# Altium footprint library 二极管-整流桥.PcbLib: 49 footprints (part 3 of 4)
Each footprint in its own frame and in the unit in brackets; x right, y up, seen from the top. Pads: shape width x height; smd on the part's side, far side on the other; paste and mask are expansions set on the pad; w line width, h text height; cw(c..) or ccw(c..) is an arc to the next point about the centre after c.
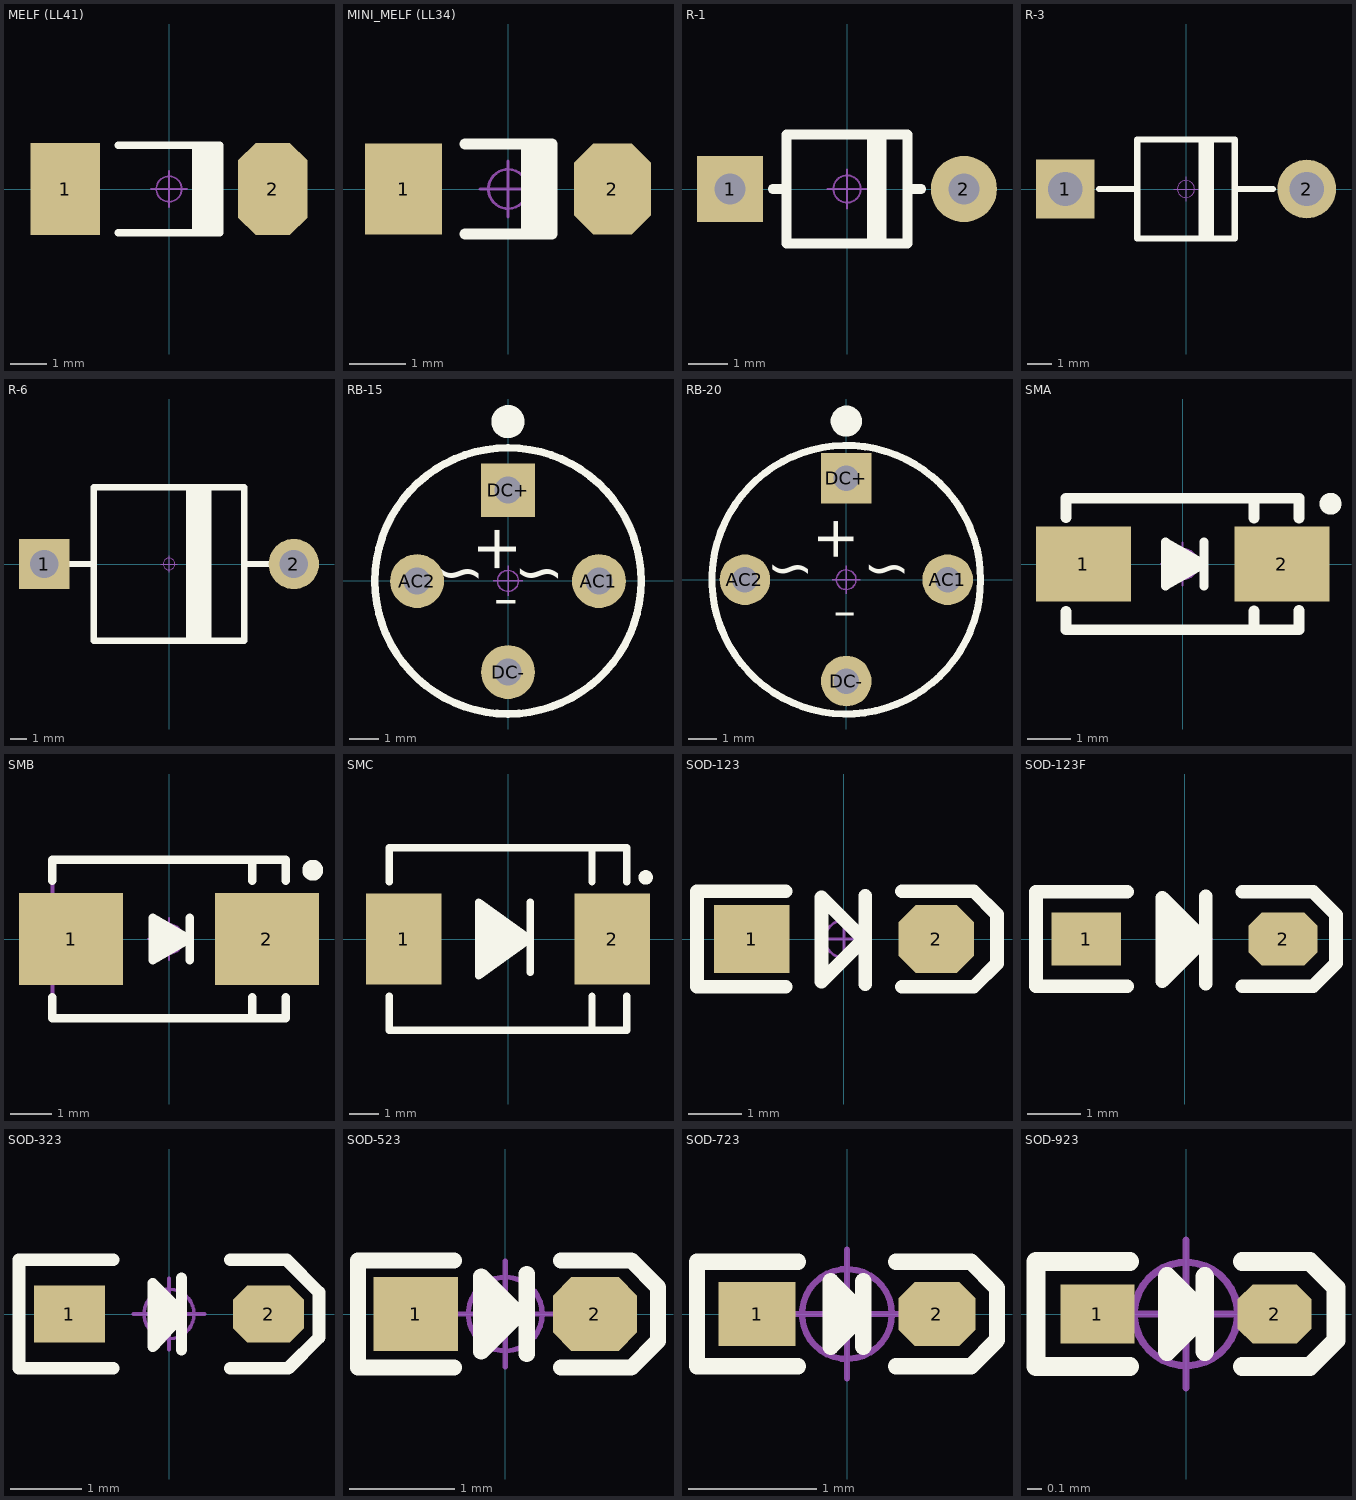
[diagram p2: the footprints below, top view; thin cyan lines are the x and y axes]

## MELF (LL41) [mm] "2.4*5.3mm(直径，脚距）"
height 2.54
pads (2):
  rect 1.9x2.54 smd: 1(-2.85,0)
  oct 1.9x2.54 smd: 2(2.85,0)
Top Overlay:
  rectangle: 0.635,-1.2 0.85,1.2
  rectangle: 0.85,-1.2 1.4,1.2
  lines w0.2: -1.4,-1.2 1.4,-1.2 1.4,1.2 -1.4,1.2
Mechanical 15:
  circle w0.05: c0,0 r0.35
  lines w0.05: -0.5,0 0.5,0 ; 0,-0.5 0,0.5
3D body "MELF.STEP": height 2.4, standoff 0, extent -2.651,-1.2 2.651,1.2

## MINI_MELF (LL34) [mm] "1.5*3.4mm(直径，脚距）"
pads (2):
  rect 1.37x1.62 smd: 1(-1.855,0)
  oct 1.37x1.62 smd: 2(1.855,0)
Top Overlay:
  rectangle: 0.227,-0.8 0.777,0.8
  lines w0.2: -0.762,-0.8 0.777,-0.8 0.777,0.8 -0.762,0.8
Mechanical 15:
  circle w0.05: c0,0 r0.35
  lines w0.05: -0.5,0 0.5,0 ; 0,-0.5 0,0.5
3D body "MINI-MELF.STEP": height 1.5, standoff 0, extent -1.701,-0.75 1.701,0.75

## R-1 [mm] "2.5*6mm(直径，脚距）"
pads (2):
  rect 1.7x1.7 hole 0.8: 1(-3,0)
  round 1.7 hole 0.8: 2(3,0)
Top Overlay:
  rectangle: 0.508,-1.397 1.016,1.397
  lines w0.254: -1.905,0 -1.55,0 ; 1.55,0 1.905,0 ; -1.55,-1.397 -1.55,1.397 1.55,1.397 1.55,-1.397 -1.55,-1.397
Mechanical 15:
  circle w0.05: c0,0 r0.35
  lines w0.05: -0.5,0 0.5,0 ; 0,-0.5 0,0.5
3D body "R-1.STEP": height 2.55, standoff -3.45, extent -3.3,-1.251 3.3,1.251

## R-3 [mm] "3.9*9.9mm(直径，脚距）"
pads (2):
  rect 2.4x2.4 hole 1.4: 1(-4.95,0)
  round 2.4 hole 1.4: 2(4.95,0)
Top Overlay:
  rectangle: 0.508,-2.032 1.143,2.032
  lines w0.254: -3.556,0 -2,0 ; 2.032,0 3.556,0 ; -2,-2.032 2,-2.032 2,2.032 -2,2.032 -2,-2.032
Mechanical 15:
  circle w0.05: c0,0 r0.35
  lines w0.05: -0.5,0 0.5,0 ; 0,-0.5 0,0.5
3D body "R-3.STEP": height 3.95, standoff -3.45, extent -5.5,-1.951 5.5,1.951

## R-6 [mm] "8.8*14.9mm(直径，脚距）"
pads (2):
  rect 3x3 hole 1.7: 1(-7.45,0)
  round 3 hole 1.7: 2(7.45,0)
Top Overlay:
  rectangle: 1.016,-4.572 2.54,4.572
  lines w0.381: -6.056,0 -4.5,0 ; 4.5,0 6.024,0 ; -4.5,-4.572 4.5,-4.572 4.5,4.572 -4.5,4.572 -4.5,-4.572
Mechanical 15:
  circle w0.05: c0,0 r0.35
  lines w0.05: -0.5,0 0.5,0 ; 0,-0.5 0,0.5
3D body "R-6.STEP": height 8.85, standoff -3.45, extent -8.1,-4.401 8.1,4.401

## RB-15 [mm] "8.9*3.5mm(直径，高)"
pads (4):
  round 1.8 hole 0.9: AC1(3.041,-0.007) AC2(-3.041,-0.007) DC-(0,-3.048)
  rect 1.8x1.8 hole 0.9: DC+(0,3.033)
Top Overlay:
  circle w0.6: c0,5.327 r0.254
  circle w0.254: c0,0 r4.45
  text "~" at 1.905,-0.889 h2.54
  text "~" at -0.762,-0.889 h2.54
  text "-" at 0.381,-1.905 h3.05
  text "+" at 0.762,1.905 h2.54
Mechanical 15:
  circle w0.05: c0,0 r0.35
  lines w0.05: -0.5,0 0.5,0 ; 0,-0.5 0,0.5
3D body "RB-15.STEP": height 3.55, standoff -3.45, extent -4.45,-4.45 4.45,4.45

## RB-20 [mm] "8.9*3.5mm(直径，高)"
pads (4):
  round 1.8 hole 0.9: AC1(3.606,0) AC2(-3.606,0) DC-(0,-3.606)
  rect 1.8x1.8 hole 0.9: DC+(0,3.606)
Top Overlay:
  circle w0.254: c0,0 r4.775
  circle w0.6: c0,5.639 r0.254
  text "+" at 0.762,2.286 h2.54
  text "-" at 0.381,-2.413 h3.05
  text "~" at -1.143,-0.762 h2.54
  text "~" at 2.286,-0.762 h2.54
Mechanical 15:
  circle w0.05: c0,0 r0.35
  lines w0.05: -0.5,0 0.5,0 ; 0,-0.5 0,0.5
3D body "RB-20.STEP": height 5.35, standoff -3.5, extent -4.625,-4.625 4.625,4.625

## SMA [mm] "4.5x2.6*2.2mm（长宽高，不包括引脚）"
height 2.54
pads (2):
  rect 2.2x1.75 smd: 1(-2.3,0) 2(2.3,0)
Top Overlay:
  circle w0.254: c3.429,1.397 r0.127
  lines w0.203: 0.494,-0.508 0.494,0.508 ; -0.395,-0.508 0.494,0 -0.395,0.508 -0.395,-0.508
  lines w0.254: -2.7,-1.105 -2.7,-1.524 2.7,-1.524 2.7,-1.08 ; -2.7,1.08 -2.7,1.524 2.7,1.524 2.7,1.067 ; -0.33,0.305 0.305,0 -0.254,-0.305 -0.254,0.051 0.023,0 ; 1.651,-1.524 1.651,-1.092 ; 1.651,1.067 1.651,1.524
Mechanical 15:
  circle w0.05: c0,0 r0.35
  lines w0.05: -0.5,0 0.5,0 ; 0,-0.5 0,0.5
3D body "SMA.STEP": height 2.15, standoff 0.04, extent -2.528,-1.3 2.575,1.3

## SMB [mm] "4.7*3.9*2.2mm(长宽高，不包括引脚）"
height 2.4
pads (2):
  rect 2.5x2.2 smd: 1(-2.35,0) 2(2.35,0)
Top Overlay:
  circle w0.25: c3.45,1.65 r0.125
  lines w0.2: -2.8,-1.4 -2.8,-1.9 2.8,-1.9 2.8,-1.4 ; -2.8,1.4 -2.8,1.9 2.8,1.9 2.8,1.4 ; 2,-1.9 2,-1.4 ; 2,1.4 2,1.9
  lines w0.203: 0.5,-0.508 0.5,0.508 ; -0.389,-0.508 -0.389,0.508 0.5,0 -0.389,-0.508
  lines w0.254: -0.254,0 0.279,0 ; 0.279,0 -0.229,0.279 -0.229,-0.305 0.279,0
Mechanical 13:
  lines w0.1: 2.8,-1.9 -2.8,-1.9 -2.8,1.9 2.8,1.9
Mechanical 15:
  circle w0.05: c0,0 r0.35
  lines w0.05: -0.5,0 0.5,0 ; 0,-0.5 0,0.5
3D body "SMB.STEP": height 2.35, standoff 0.04, extent -2.629,-1.8 2.675,1.8

## SMC [mm] "7.1x5.9*2.3mm（长宽高，不包括引脚）"
height 2.41
pads (2):
  rect 2.6x3.15 smd: 1(-3.6,0) 2(3.6,0)
Top Overlay:
  circle w0.25: c4.75,2.125 r0.125
  lines w0.254: -4.1,-1.975 -4.1,-3.15 4.1,-3.15 4.1,-1.975 ; -4.1,1.975 -4.1,3.15 4.1,3.15 4.1,1.975 ; -0.889,0.991 0.5,0 -0.889,-0.965 -0.914,0.762 0.229,0 -0.711,-0.66 -0.762,0.483 0,-0.051 -0.584,-0.33 -0.635,0.152 -0.229,-0.051 -0.737,-0.127 ; 0.762,-1.143 0.762,1.27 ; 2.9,-3.15 2.9,-1.975 ; 2.9,1.975 2.9,3.15 ; -1.016,-1.27 0.762,0 -1.016,1.27 -1.016,-1.27
Mechanical 13:
  lines w0.1: -4.065,-3.11 4.065,-3.11 ; -4.065,3.11 4.065,3.11
Mechanical 15:
  circle w0.05: c0,0 r0.35
  lines w0.05: -0.5,0 0.5,0 ; 0,-0.5 0,0.5
3D body "SMC.STEP": height 2.45, standoff 0.03, extent -3.953,-2.9 3.953,2.9

## SOD-123 [mil] "2.7x1.6X1.1mm（长宽高，不包括引脚）"
pads (2):
  rect 55x50 smd: 1(-67.5,0)
  oct 55x50 smd: 2(67.5,0)
Top Overlay:
  lines w10: -42.5,-35 -107.5,-35 -107.5,35 -42.5,35 ; 14,-0.8 -16.4,-31.2 -16.4,30.5 15.6,-1.5 ; 15.6,-33.1 15.6,31.7 ; 42.5,-35 95,-35 112,-18 112,18 95,35 42.5,35
Mechanical 15:
  circle w1.97: c0,0 r13.78
  lines w1.97: -19.68,0 19.68,0 ; 0,-19.68 0,19.68
3D body "SOD-123.STEP": height 48.03, standoff 0, extent -72.84,-31.5 72.83,31.5

## SOD-123F [mm] "2.7x1.6X1.1mm（长宽高，不包括引脚）"
pads (2):
  rect 1.3x1 smd: 1(-1.85,0)
  oct 1.3x1 smd: 2(1.85,0)
Top Overlay:
  lines w0.254: -1.079,-0.889 -2.794,-0.889 -2.794,0.889 -1.079,0.889 ; -0.254,0.559 -0.229,-0.432 0.254,0 0,0.254 0,0 0,-0.254 ; 0.356,-0.02 -0.417,-0.792 -0.417,0.775 0.396,-0.038 ; 0.396,-0.841 0.396,0.805 ; 1.079,-0.889 2.413,-0.889 2.845,-0.457 2.845,0.457 2.413,0.889 1.079,0.889
Mechanical 15:
  circle w0.05: c0,0 r0.35
  lines w0.05: -0.5,0 0.5,0 ; 0,-0.5 0,0.5
3D body "SOD-123F.STEP": height 1.15, standoff 0.04, extent -1.9,-0.8 1.9,0.8

## SOD-323 [mm] "1.8x1.3X0.9mm（长宽高，不包括引脚）"
pads (2):
  rect 1x0.8 smd: 1(-1.4,0)
  oct 1x0.8 smd: 2(1.4,0)
Top Overlay:
  lines w0.152: 0.178,-0.508 0.178,0.508 ; 0.178,-0.025 -0.229,-0.457 -0.229,0.432 0.178,0.025
  lines w0.178: -0.787,-0.762 -2.108,-0.762 -2.108,0.762 -0.787,0.762 ; 0.864,-0.762 1.676,-0.762 2.108,-0.33 2.108,0.305 1.651,0.762 0.864,0.762
  lines w0.254: -0.127,0.254 -0.152,-0.178 0.025,-0.025 -0.025,0.127
Mechanical 15:
  circle w0.05: c0,0 r0.35
  lines w0.05: -0.5,0 0.5,0 ; 0,-0.5 0,0.5
3D body "SOD-323.STEP": height 1, standoff 0.04, extent -1.337,-0.631 1.311,0.669

## SOD-523 [mm] "1.2x0.8X0.6mm（长宽高，不包括引脚）"
pads (2):
  rect 0.8x0.7 smd: 1(-0.85,0)
  oct 0.8x0.7 smd: 2(0.85,0)
Top Overlay:
  rectangle: -0.178,-0.178 0,0.178
  lines w0.152: -0.488,-0.508 -1.397,-0.508 -1.397,0.508 -0.488,0.508 ; -0.127,0 0.127,0 ; 0.203,-0.381 0.203,0.381 ; 0.528,-0.508 1.194,-0.508 1.448,-0.254 1.448,0.254 1.194,0.508 0.528,0.508 ; 0.127,0 -0.229,-0.356 -0.229,0.356 0.127,0
Mechanical 15:
  circle w0.05: c0,0 r0.35
  lines w0.05: -0.5,0 0.5,0 ; 0,-0.5 0,0.5
3D body "SOD-523.STEP": height 0.65, standoff 0.05, extent -0.8,-0.4 0.8,0.4

## SOD-723 [mm] "1x0.6X0.5mm（长宽高，不包括引脚）"
pads (2):
  rect 0.6x0.5 smd: 1(-0.7,0)
  oct 0.6x0.5 smd: 2(0.7,0)
Top Overlay:
  lines w0.127: -0.381,-0.406 -1.168,-0.406 -1.168,0.406 -0.381,0.406 ; 0,-0.127 0,0.127 -0.127,0.254 ; 0.127,-0.254 0.127,0.254 ; 0.381,-0.406 0.965,-0.406 1.168,-0.203 1.168,0.203 0.965,0.406 0.381,0.406 ; -0.127,0.254 -0.127,-0.254 0.127,0 -0.127,0.254
Mechanical 15:
  circle w0.05: c0,0 r0.35
  lines w0.05: -0.5,0 0.5,0 ; 0,-0.5 0,0.5
3D body "SOD-723.STEP": height 0.53, standoff 0.03, extent -0.7,-0.3 0.7,0.3

## SOD-923 [mm] "0.8x0.6X0.4mm（长宽高，不包括引脚）"
pads (2):
  rect 0.5x0.4 smd: 1(-0.6,0)
  oct 0.5x0.4 smd: 2(0.6,0)
Top Overlay:
  lines w0.127: -0.381,-0.356 -1.016,-0.356 -1.016,0.356 -0.381,0.356 ; 0,-0.127 0,0.127 -0.127,0.254 ; 0.127,-0.254 0.127,0.254 ; 0.381,-0.356 0.838,-0.356 1.016,-0.178 1.016,0.178 0.838,0.356 0.381,0.356 ; -0.127,0.254 0.127,0 -0.127,-0.254 -0.127,0.254
Mechanical 15:
  circle w0.05: c0,0 r0.35
  lines w0.05: -0.5,0 0.5,0 ; 0,-0.5 0,0.5
3D body "SOD-923.STEP": height 0.43, standoff 0.03, extent -0.5,-0.3 0.5,0.3